# EAGLE library part TF_CARD (library Deegou_Connector)
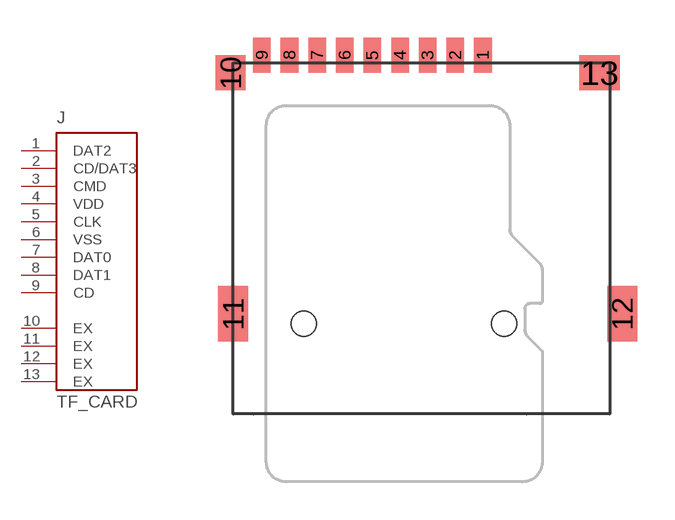
[diagram p30: symbol with the pads of TF_CARD; footprint TF_CARD]

Designator prefix J

## TF_CARD  [TF_CARD]
1  DAT2
2  CD/DAT3
3  CMD
4  VDD
5  CLK
6  VSS
7  DAT0
8  DAT1
9  CD
10  EX
11  EX
12  EX
13  EX

## Footprint TF_CARD (pad centres in mm)
smd 0.7 x 1.4: 1 9.95,10.3; 2 8.85,10.3; 3 7.75,10.3; 4 6.65,10.3; 5 5.55,10.3; 6 4.45,10.3; 7 3.35,10.3; 8 2.25,10.3; 9 1.15,10.3
smd 1.2 x 1.4: 10 -0.1,9.6
smd 1.2 x 2.2: 11 0,0; 12 15.5,0
smd 1.6 x 1.4: 13 14.6,9.6
hole 1 at 2.82,-0.4
hole 1 at 10.8,-0.4